# Altium integrated library IRF540NPBF.IntLib: 1 symbol
Pins are listed as number, name and electrical type; pins without a type are passive.

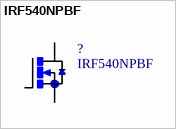
[diagram p0: symbol IRF540NPBF]

## IRF540NPBF
designator ?
Single N-Channel 100 V 44 mOhm 71 nC HEXFETÂ® Power Mosfet - TO-220-3; MF: Infineon; MP: IRF540NPBF; Package: TO-220 Infineon; SnapEDA_Link: https://www.snapeda.com/parts/IRF540NPBF/Infineon%20Technologies/view-part/?ref=snap; Price: None; Availability: Unavailable; Value: *
footprint D2PACK
pins: 1 G, 2 D, 3 S